# Altium footprint library Conn_Molex_53048-0710_eec_0.PcbLib: 1 footprints
Each footprint in its own frame and in the unit in brackets; x right, y up, seen from the top. Pads: shape width x height; smd on the part's side, far side on the other; paste and mask are expansions set on the pad; w line width, h text height; cw(c..) or ccw(c..) is an arc to the next point about the centre after c.
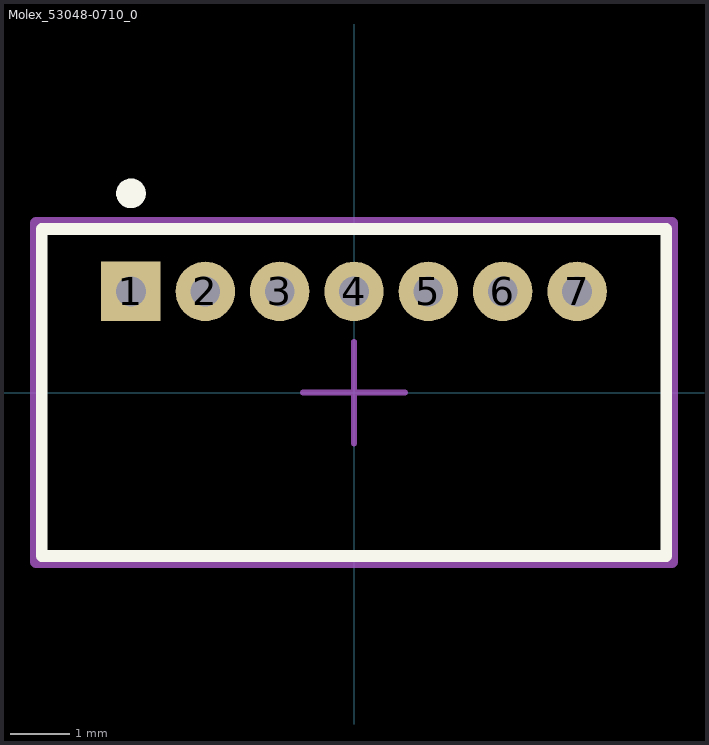
[diagram p0: the footprint, top view; thin cyan lines are the x and y axes]

## Molex_53048-0710_0 [mm]
pads (7):
  rect 1x1 hole 0.5 paste-1000 mask+0: 1(-3.75,1.7)
  round 1 hole 0.5 paste-1000 mask+0: 2(-2.5,1.7) 3(-1.25,1.7) 4(0,1.7) 5(1.25,1.7) 6(2.5,1.7) 7(3.75,1.7)
Top Overlay:
  circle w0.25: c-3.75,3.35 r0.125
  lines w0.2: -5.25,-2.75 5.25,-2.75 5.25,2.75 -5.25,2.75 -5.25,-2.75
Mechanical 10:
  lines w0.2: -5.35,-2.85 5.35,-2.85 5.35,2.85 -5.35,2.85 -5.35,-2.85
  text ".Designator" at 0,0 h1
Mechanical 12:
  lines w0.15: -5.25,-2.75 5.25,-2.75 5.25,2.75 -5.25,2.75 -5.25,-2.75
Mechanical 15:
  lines w0.1: -0.855,0 0.855,0 ; 0,-0.855 0,0.855
  lines w0.2: -5.35,-2.85 5.35,-2.85 5.35,2.85 -5.35,2.85 -5.35,-2.85
3D body "Conn_Molex_53048-0710_eec.STEP": height 0.25, standoff 0, extent -5.35,-2.85 5.35,2.85